# Altium schematic symbol library RFM9x Radio.SchLib: 1 symbol
Pins are listed as number, name and electrical type; pins without a type are passive.

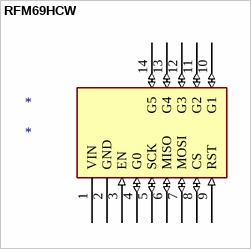
[diagram p0: symbol RFM69HCW]

## RFM69HCW
designator *
footprint RFM95W
pins: 1 VIN (power), 2 GND (power), 3 EN (in), 4 G0 (io), 5 SCK (io), 6 MISO (io), 7 MOSI (io), 8 CS (io), 9 RST (in), 10 G1 (io), 11 G2 (io), 12 G3 (io), 13 G4 (io), 14 G5 (io)